# EAGLE library part AAT3681A (library custom-parts)
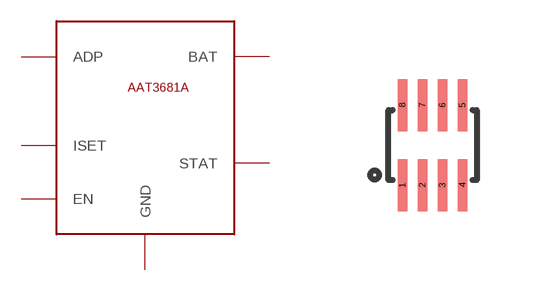
[diagram p2: symbol with the pads of SC70JW-8; footprint SC70JW-8]

Designator prefix -

## AAT3681A  [SC70JW-8]
1  EN
2  ISET
3  BAT
4  ADP
5  STAT
6  GND
7  GND
8  GND

## Footprint SC70JW-8 (pad centres in mm)
smd 0.23 x 1.3: 1 -0.75,-1; 2 -0.25,-1; 3 0.25,-1; 4 0.75,-1; 5 0.75,1; 6 0.25,1; 7 -0.25,1; 8 -0.75,1